# Altium footprint library led_0603p_red.PcbLib: 1 footprints
Each footprint in its own frame and in the unit in brackets; x right, y up, seen from the top. Pads: shape width x height; smd on the part's side, far side on the other; paste and mask are expansions set on the pad; w line width, h text height; cw(c..) or ccw(c..) is an arc to the next point about the centre after c.
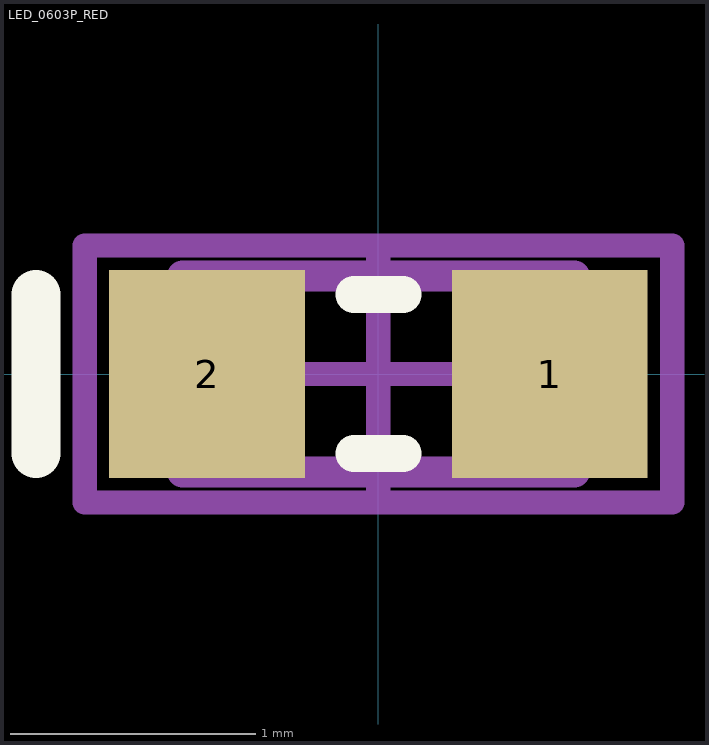
[diagram p0: the footprint, top view; thin cyan lines are the x and y axes]

## LED_0603P_RED [mm]
height 0.9
pads (2):
  rect 0.8x0.85 smd: 1(0.7,0) 2(-0.7,0)
Top Overlay:
  lines w0.15: -0.1,-0.325 0.1,-0.325 ; -0.1,0.325 0.1,0.325
  lines w0.2: -1.4,-0.325 -1.4,0.325
Top 3D Body:
  lines w0.127: -0.8,-0.4 -0.8,0.4 0.8,0.4 0.8,-0.4 -0.8,-0.4
Top Courtyard:
  lines w0.1: -0.48,0 0.48,0 ; 0,-0.48 0,0.48 ; -1.2,-0.525 -1.2,0.525 1.2,0.525 1.2,-0.525 -1.2,-0.525
3D body "User Library-led_0603.step": height 0.6, standoff 0, extent -0.81,-0.4 0.81,0.4